# EAGLE library part HEF4066B (library ic-logic)
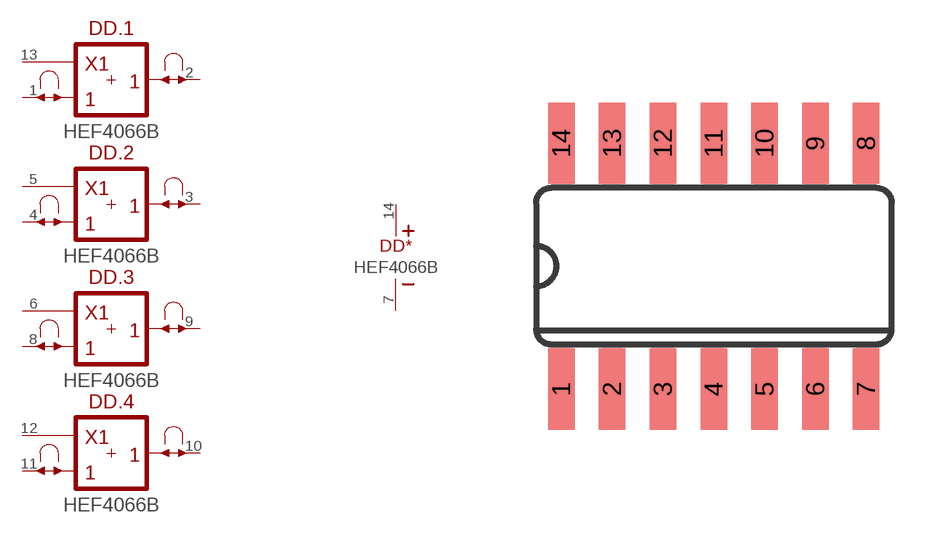
[diagram p1: symbol with the pads of SO-14; footprint SO-14]

Designator prefix DD; gates .1=4066 .2=4066 .3=4066 .4=4066 *=SUPPLY

## HEF4066BT,625 (MOUSER: 771-HEF4066BT652)  [SO-14]
1  .1:A  pas
2  .1:B  pas
3  .2:B  pas
4  .2:A  pas
5  .2:C  in
6  .3:C  in
7  *:V-  pwr
8  .3:A  pas
9  .3:B  pas
10  .4:B  pas
11  .4:A  pas
12  .4:C  in
13  .1:C  in
14  *:V+  pwr

## Footprint SO-14 (pad centres in mm)
Small Outline package 150 mil
smd 0.66 x 2.032: 1 -3.81,-3.073; 2 -2.54,-3.073; 3 -1.27,-3.073; 4 0,-3.073; 5 1.27,-3.073; 6 2.54,-3.073; 7 3.81,-3.073; 8 3.81,3.073; 9 2.54,3.073; 10 1.27,3.073; 11 0,3.073; 12 -1.27,3.073; 13 -2.54,3.073; 14 -3.81,3.073